# Altium footprint library lib-con.PcbLib: 51 footprints (part 3 of 4)
Each footprint in its own frame and in the unit in brackets; x right, y up, seen from the top. Pads: shape width x height; smd on the part's side, far side on the other; paste and mask are expansions set on the pad; w line width, h text height; cw(c..) or ccw(c..) is an arc to the next point about the centre after c.
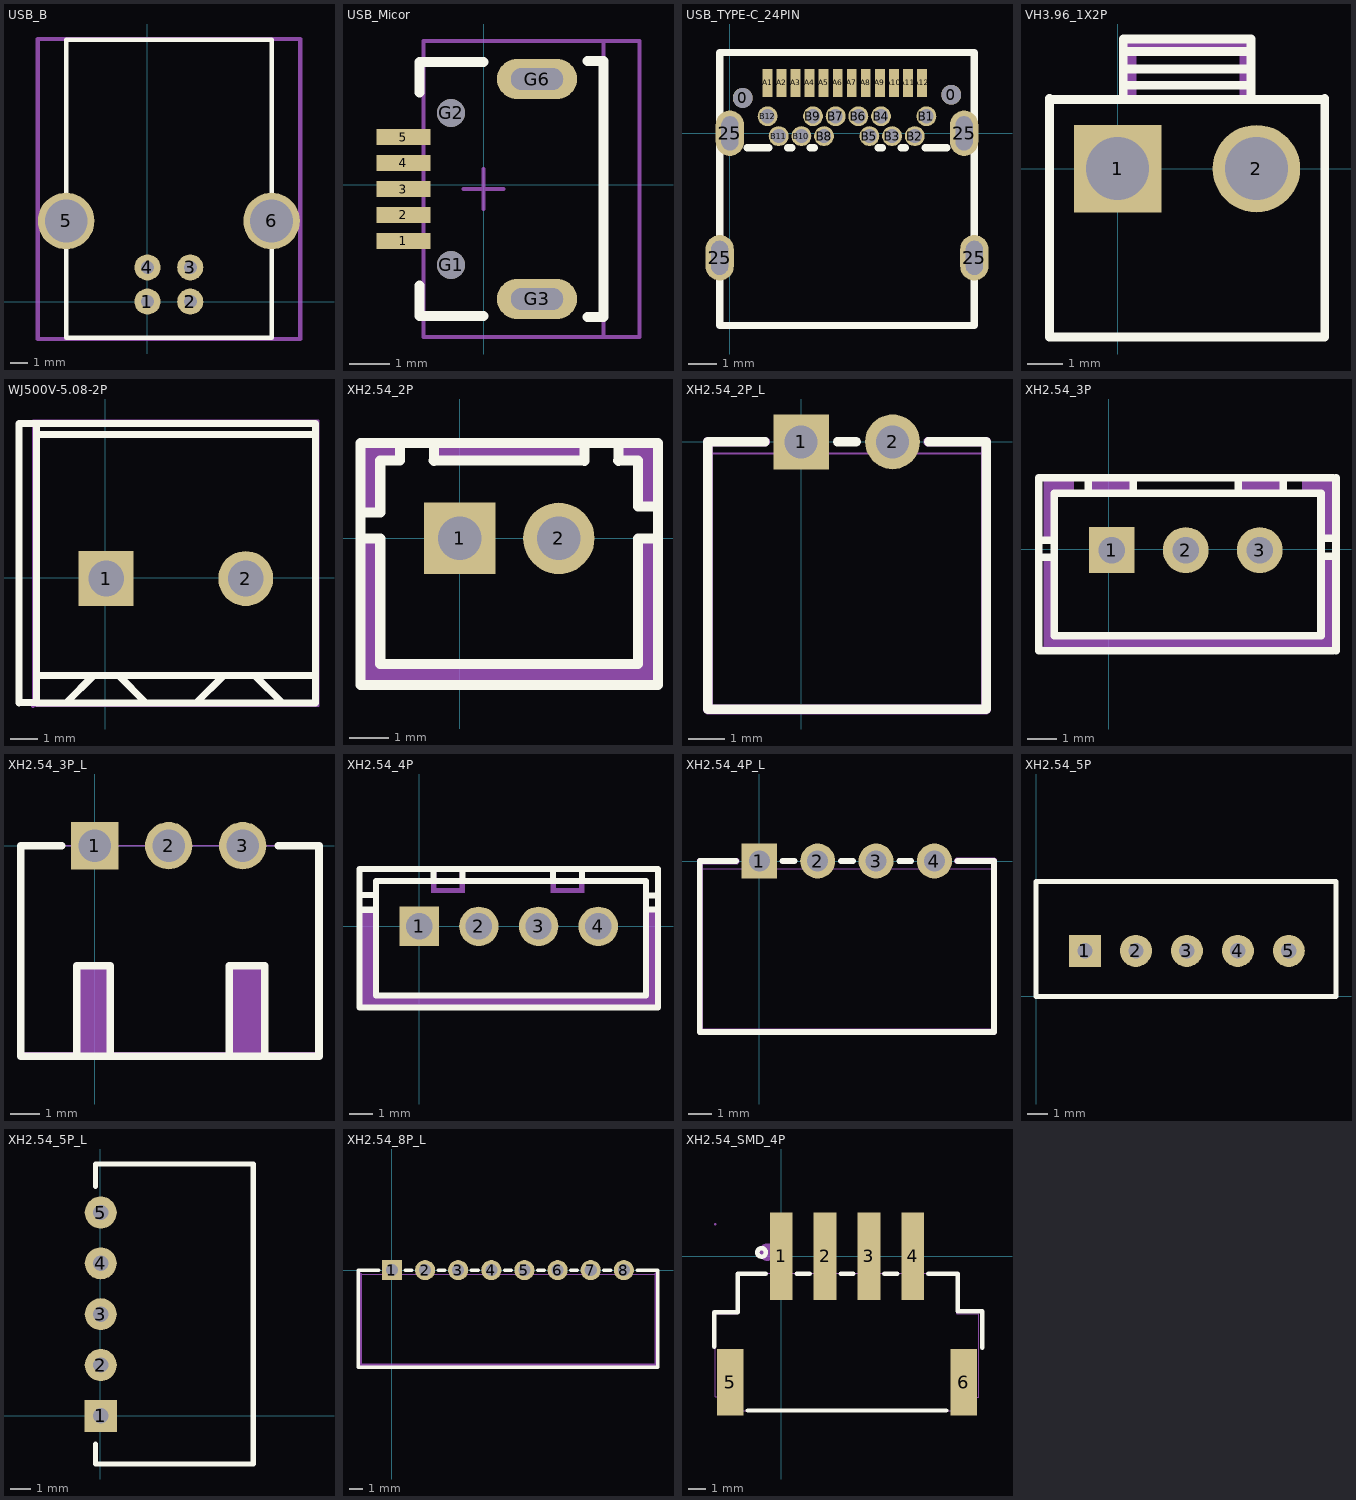
[diagram p2: the footprints below, top view; thin cyan lines are the x and y axes]

## USB_B [mm]
pads (6):
  round 1.524 hole 0.762: 1(0,0) 2(2.5,0) 3(2.5,2) 4(0,2)
  round 3.3 hole 2.5: 5(-4.75,4.71) 6(7.25,4.71)
Top Overlay:
  lines w0.254: -4.75,-2.108 -4.75,4.71 -4.75,15.291 7.25,15.291 7.25,4.71 7.25,-2.108 2.565,-2.108 -4.75,-2.108
Mechanical 15:
  lines w0.254: -6.401,-2.184 8.915,-2.184 8.915,15.342 -6.401,15.342 -6.401,-2.184
3D body "67068-0000.stp": height 11, standoff -4.22, extent -6.224,-1.963 8.636,15.037

## USB_Micor [mm]
pads (9):
  rect 1.35x0.4 smd: 1(-2,-1.402) 2(-2,-0.752) 3(-2,-0.102) 4(-2,0.548) 5(-2,1.198)
  round 0.7 hole 0.7 unplated: G1(-0.813,-2.002) G2(-0.813,1.798)
  oval 2x1 hole 0.55 slot 1.3 at 0 deg: G3(1.337,-2.852) G6(1.337,2.648)
Top Overlay:
  lines w0.254: -1.6,-2.515 -1.6,-3.277 0,-3.277 ; -1.6,2.311 -1.6,3.073 0,3.073 ; 2.6,-3.302 3,-3.302 3,3.098 2.6,3.098
Mechanical 15:
  lines w0.1: -0.5,-0.102 0.5,-0.102 ; 0,-0.602 0,0.398 ; 3,-3.802 3,3.598 ; -1.5,-3.802 3.9,-3.802 3.9,3.598 -1.5,3.598 -1.5,-3.802
3D body "Micro_USB_2.STEP": height 2.68, standoff -0.63, extent -1.515,-4.202 3.915,3.998

## USB_TYPE-C_24PIN [mm] "https://item.szlcsc.com/458820.html"
pads (30):
  round 0.7 hole 0.7: 0(0.455,1.25) 0(7.805,1.36)
  oval 1x1.6 hole 1.2 slot 0.6 at 0 deg: 25(-0.36,-4.39) 25(0,0) 25(8.26,0) 25(8.62,-4.39)
  rect 0.35x1 smd: A1(1.33,1.775) A2(1.825,1.775) A3(2.319,1.775) A4(2.814,1.775) A5(3.308,1.775) A6(3.803,1.775) A7(4.297,1.775) A8(4.792,1.775) A9(5.286,1.775) A10(5.781,1.775) A11(6.275,1.775) A12(6.77,1.775)
  round 0.7 hole 0.5: B1(6.93,0.6) B2(6.52,-0.1) B3(5.72,-0.1) B4(5.33,0.6) B5(4.92,-0.1) B6(4.53,0.6) B7(3.73,0.6) B8(3.32,-0.1) B9(2.93,0.6) B10(2.52,-0.1) B11(1.72,-0.1) B12(1.33,0.6)
Top Overlay:
  lines w0.254: 0.61,-0.508 1.372,-0.508 ; 2.032,-0.508 2.184,-0.508 ; 2.832,-0.508 2.984,-0.508 ; 5.232,-0.508 5.384,-0.508 ; 6.032,-0.508 6.184,-0.508 ; 6.883,-0.508 7.645,-0.508 ; -0.36,-6.778 -0.36,-3.526 -0.36,0.842 -0.36,2.849 8.62,2.849 8.62,0.842 8.62,-6.778 -0.36,-6.778
3D body "usb_31_c.stp": height 3.54, standoff -1.16, extent -0.685,-7.859 8.965,2.141

## VH3.96_1X2P [mm]
pads (2):
  rect 2.5x2.5 hole 1.8: 1(0,0)
  round 2.5 hole 1.8: 2(3.96,0)
Top Overlay:
  lines w0.254: -1.95,1.98 5.91,1.98 ; -1.95,2 -1.95,-4.8 5.91,-4.8 5.91,2 ; 0.16,1.999 0.16,3.701 ; 0.16,2.842 3.8,2.842 ; 0.16,3.7 3.8,3.7 3.8,2 ; 0.177,2.382 3.8,2.382 ; 0.177,3.342 3.8,3.342
Mechanical 6:
  region: 3.78,2 3.78,3.7 0.18,3.7 0.18,2 0.53,2 0.53,3.45 3.48,3.45 3.48,2
Mechanical 15:
  region: -1.89,-4.8 -1.89,-4.775 -1.925,-4.74 -1.975,-4.74 -2.01,-4.775 -2.01,-4.8 -2.01,-4.825 -1.975,-4.86 -1.925,-4.86 -1.89,-4.825
  region: 3.39,0.57 4.53,0.57 4.53,-0.57 3.39,-0.57
  region: -0.57,0.57 0.57,0.57 0.57,-0.57 -0.57,-0.57
  lines w0.051: -1.95,-4.8 -1.95,1.98 0.13,1.98 0.16,2.01 0.16,3.701 0.161,3.7 3.8,3.7 3.83,3.67 3.83,1.98 3.85,2 5.91,2 5.91,-4.8 -1.95,-4.8 ; -1.95,-4.8 -1.95,-4.8
3D body "XH3_F.step": height 10.4, standoff -3.4, extent -2.007,-4.883 5.913,3.817

## WJ500V-5.08-2P [mm]
pads (2):
  rect 2x2 hole 1.3: 1(0.025,-0.025)
  round 2 hole 1.3: 2(5.105,-0.025)
Top Overlay:
  lines w0.254: -2.515,-4.545 -2.515,5.615 -3.147,5.615 -3.147,-4.548 -3.148,-4.547 -2.49,-4.547 -2.488,-4.548 7.645,-4.548 7.645,5.612 -2.488,5.612 ; -2.5,5.217 7.645,5.217 ; -2.471,-3.557 7.645,-3.557 ; -1.405,-4.526 -0.445,-3.565 ; 0.485,-3.565 1.446,-4.526 ; 3.315,-4.544 4.275,-3.584 ; 5.466,-3.584 6.426,-4.544
Mechanical 15:
  region: 0.575,-0.025 0.575,0.084 0.492,0.286 0.337,0.441 0.135,0.525 -0.084,0.525 -0.286,0.441 -0.441,0.286 -0.525,0.084 -0.525,-0.025 -0.525,-0.135 -0.441,-0.337 -0.286,-0.492 -0.084,-0.575 0.135,-0.575 0.337,-0.492 0.492,-0.337 0.575,-0.135
  region: 5.655,-0.025 5.655,0.084 5.572,0.286 5.417,0.441 5.215,0.525 4.996,0.525 4.794,0.441 4.639,0.286 4.555,0.084 4.555,-0.025 4.555,-0.135 4.639,-0.337 4.794,-0.492 4.996,-0.575 5.215,-0.575 5.417,-0.492 5.572,-0.337 5.655,-0.135
  region: -2.582,-4.675 -2.582,-4.65 -2.617,-4.615 -2.666,-4.615 -2.702,-4.65 -2.702,-4.675 -2.702,-4.7 -2.666,-4.735 -2.617,-4.735 -2.582,-4.7
  lines w0.051: -2.642,-4.675 -2.642,5.742 7.772,5.742 7.772,-4.675 -2.642,-4.675
3D body "3D_001_f.step": height 14.1, standoff -3.4, extent -3.145,-4.597 7.616,5.403

## XH2.54_2P [mm]
pads (2):
  rect 1.8x1.8 hole 1.1 paste+0 mask+0.05: 1(0,0)
  round 1.8 hole 1.1 paste+0 mask+0.05: 2(2.5,0)
Top Overlay:
  lines w0.254: -2.5,-2.416 -2.5,0 -2,0 -2,-2.416 -2,-3.167 4.5,-3.167 4.5,-2.344 4.5,0 5,0 5,-2.344 ; -2.5,-1.603 -2.5,0.648 -2,0.65 -2,1.958 -1.5,1.958 -1.5,2.408 ; -0.65,1.95 -0.65,2.4 ; -0.65,1.958 3.15,1.958 ; 3.15,1.95 3.15,2.4 ; 3.999,1.958 4.5,1.958 4.5,0.8 5,0.8 5,-1.501 ; 4,1.95 4,2.399 ; -2.5,-3.7 5,-3.7 5,2.4 -2.5,2.4 -2.5,-3.7
Mechanical 6:
  region: 4,1.95 4.491,1.95 4.5,1.958 4.5,0.8 5,0.8 5,2.4 4.001,2.4 4,2.399
  region: -1.5,1.9 -1.991,1.9 -2,1.908 -2,0.75 -2.5,0.75 -2.5,2.35 -1.501,2.35 -1.5,2.349
  region: 4.5,0 5,0 5,-3.7 -2.5,-3.7 -2.5,-0.05 -2,0 -2,-3.167 4.5,-3.167
  region: 3.15,2.4 3.15,1.9 -0.65,1.9 -0.65,2.4
Mechanical 15:
  region: 2.18,0.32 2.82,0.32 2.82,-0.32 2.18,-0.32
  region: -0.32,0.32 0.32,0.32 0.32,-0.32 -0.32,-0.32
  region: -2.44,-3.5 -2.44,-3.475 -2.475,-3.44 -2.525,-3.44 -2.56,-3.475 -2.56,-3.5 -2.56,-3.525 -2.525,-3.56 -2.475,-3.56 -2.44,-3.525
  lines w0.051: -2.5,-3.5 -2.5,2.4 5,2.4 5,-3.5 -2.5,-3.5
3D body "User Library-XH2_54_ZC_2P.STEP": height 7, standoff -4, extent -2.481,-3.489 4.919,2.311

## XH2.54_2P_L [mm]
pads (2):
  rect 1.524x1.5 hole 0.9 paste+0 mask+0.05: 1(0,0)
  round 1.5 hole 0.9 paste+0 mask+0.05: 2(2.5,0)
Top Overlay:
  lines w0.254: -0.993,0 -2.553,0 -2.553,-7.32 5.06,-7.32 5.06,0 3.481,0 ; 0.993,0 1.507,0
Mechanical 6:
  region: -0.993,-0.127 -2.426,-0.127 -2.426,-7.193 4.933,-7.193 4.933,-0.127 3.481,-0.127 3.429,-0.127 3.354,-0.053 3.354,0.053 3.429,0.127 3.481,0.127 5.06,0.127 5.085,0.127 5.132,0.108 5.168,0.072 5.187,0.025 5.187,0 5.187,-7.32 5.187,-7.345 5.168,-7.392 5.132,-7.428 5.085,-7.447 5.06,-7.447 -2.553,-7.447 -2.578,-7.447 -2.625,-7.428 -2.661,-7.392 -2.68,-7.345 -2.68,-7.32 -2.68,0 -2.68,0.025 -2.661,0.072 -2.625,0.108 -2.578,0.127 -2.553,0.127 -0.993,0.127 -0.94,0.127 -0.866,0.053 -0.866,-0.053 -0.94,-0.127
Mechanical 15:
  region: -2.44,-7.32 -2.441,-7.296 -2.475,-7.262 -2.524,-7.262 -2.559,-7.296 -2.56,-7.32 -2.559,-7.344 -2.524,-7.378 -2.476,-7.378 -2.441,-7.344
  region: -0.32,-0.32 -0.32,-0.31 0.315,-0.31 0.32,-0.305 0.32,-0.33 -0.32,-0.33
  region: 2.18,-0.32 2.18,-0.31 2.815,-0.31 2.82,-0.305 2.82,-0.33 2.18,-0.33
  region: 2.18,0.32 2.82,0.32 2.82,-0.32 2.18,-0.32
  region: -0.32,0.32 0.32,0.32 0.32,-0.32 -0.32,-0.32
  lines w0.051: -2.5,-7.32 -2.5,-0.32 5,-0.32 5,-7.32 -2.5,-7.32
3D body "3D_PCB1_2024-07-061.step": height 5.98, standoff -3.32, extent -2.612,-7.422 4.898,0.218

## XH2.54_3P [mm]
pads (3):
  rect 1.55x1.55 hole 0.9: 1(0.102,-0.025)
  round 1.55 hole 0.9: 2(2.602,-0.025) 3(5.102,-0.025)
Top Overlay:
  lines w0.254: -2.365,-0.265 -1.899,-0.265 -1.899,-0.225 ; -2.365,0.307 -1.899,0.307 -1.899,0.275 ; -0.701,1.905 -0.701,2.413 ; 0.823,1.905 0.823,2.413 ; 4.379,1.905 4.379,2.413 ; 5.904,1.905 5.904,2.184 5.904,2.413 ; 7.201,-0.225 7.681,-0.225 7.681,-0.176 ; 7.201,0.375 7.681,0.375 7.681,0.37 ; 7.567,-3.429 -2.365,-3.429 -2.365,2.413 7.567,2.413 ; 7.681,-3.429 7.681,2.413 ; -1.843,-2.921 -1.843,1.905 7.174,1.905 7.174,-2.921 -1.843,-2.921
Mechanical 6:
  region: -2.199,2.388 -2.199,0.356 -1.818,0.356 -1.818,2.007 -1.183,2.007 -1.183,2.388
  region: 7.554,2.388 7.554,0.356 7.173,0.356 7.173,2.007 6.538,2.007 6.538,2.388
  region: -2.199,-3.425 -2.199,-0.325 -1.799,-0.325 -1.799,-2.925 7.201,-2.925 7.201,-0.325 7.601,-0.325 7.601,-3.425
  region: -0.699,2.375 0.801,2.375 0.801,1.975 -0.699,1.975
  region: 4.401,2.375 5.901,2.375 5.901,1.975 4.401,1.975
Mechanical 15:
  region: 0.351,-0.275 -0.149,-0.275 -0.149,0.225 0.351,0.225
  region: 2.851,-0.275 2.351,-0.275 2.351,0.225 2.851,0.225
  region: 5.351,-0.275 4.851,-0.275 4.851,0.225 5.351,0.225
  region: -2.339,-3.309 -2.339,-3.285 -2.374,-3.249 -2.423,-3.249 -2.459,-3.285 -2.459,-3.309 -2.459,-3.334 -2.423,-3.369 -2.374,-3.369 -2.339,-3.334
  lines w0.051: -2.399,-3.309 7.601,-3.309 7.601,2.441 -2.399,2.441 -2.399,-3.309
3D body "User Library-XH2_54-3P.STEP": height 7, standoff -1.8, extent -2.288,-3.459 7.672,2.341

## XH2.54_3P_L [mm]
pads (3):
  rect 1.6x1.6 hole 1.1: 1(0,0)
  round 1.6 hole 1.1: 2(2.5,0) 3(5,0)
Top Overlay:
  lines w0.254: -1.116,0 -2.5,0 -2.5,-7.112 7.5,-7.112 ; -0.608,-7.112 -0.608,-4.064 0.522,-4.064 0.522,-7.112 ; 4.545,-7.112 4.545,-4.064 5.751,-4.064 5.751,-7.112 ; 6.196,0 7.58,0 7.58,-7.112
Mechanical 6:
  region: -0.548,-4.064 0.468,-4.064 0.468,-7.112 -0.548,-7.112
  region: 4.659,-4.064 5.675,-4.064 5.675,-7.112 4.659,-7.112
Mechanical 15:
  region: -2.44,-7 -2.44,-6.975 -2.475,-6.94 -2.525,-6.94 -2.56,-6.975 -2.56,-7 -2.56,-7.025 -2.525,-7.06 -2.475,-7.06 -2.44,-7.025
  region: 5.32,-0.32 4.68,-0.32 4.68,0.32 5.32,0.32
  region: 2.82,-0.32 2.18,-0.32 2.18,0.32 2.82,0.32
  region: 0.32,-0.32 -0.32,-0.32 -0.32,0.32 0.32,0.32
  lines w0.051: -2.5,-7 -2.5,0 7.5,0 7.5,-7 -2.5,-7
3D body "3D_PCB1_2024-07-061 v1.step": height 5.76, standoff -3.34, extent -2.435,-7.243 7.566,0.457

## XH2.54_4P [mm]
pads (4):
  rect 1.65x1.65 hole 1.1 paste+0 mask+0.05: 1(0,0)
  round 1.65 hole 1.1 paste+0 mask+0.05: 2(2.5,0) 3(5,0) 4(7.5,0)
Top Overlay:
  lines w0.254: -2.5,0.694 -1.8,0.694 ; -2.5,1.305 -1.8,1.305 ; 0.61,1.9 0.61,2.4 ; 1.81,1.9 1.81,2.4 ; 5.61,1.9 5.61,2.4 ; 6.81,1.9 6.81,2.4 ; 9.5,0.7 10,0.7 ; 9.5,1.3 10,1.3 ; -2.501,-3.401 10,-3.4 10,2.4 -2.501,2.4 -2.501,-3.401 ; -1.8,-2.9 -1.8,1.89 9.5,1.89 9.5,-2.9 -1.8,-2.9
Mechanical 6:
  region: 9.465,0.635 9.465,-2.921 -1.838,-2.921 -1.838,0.762 -2.473,0.762 -2.473,-3.302 9.973,-3.302 9.973,0.635
  region: 0.51,2.4 0.51,1.8 0.71,1.8 0.71,2.4
  region: 1.71,2.4 1.71,1.8 1.91,1.8 1.91,2.4
  region: 0.71,1.4 1.71,1.4 1.71,1.6 0.71,1.6
  region: 5.51,2.4 5.51,1.8 5.71,1.8 5.71,2.4
  region: 6.91,1.8 6.91,2.4 6.71,2.4 6.71,1.8
  region: 5.71,1.4 6.71,1.4 6.71,1.6 5.71,1.6
  region: 1.91,2 5.51,2 5.51,1.8 1.91,1.8
  region: 0.51,1.8 0.51,1.4 0.71,1.4 0.71,1.8
  region: 1.71,1.8 1.71,1.4 1.91,1.4 1.91,1.8
  region: 5.51,1.8 5.51,1.4 5.71,1.4 5.71,1.8
  region: 6.71,1.8 6.71,1.4 6.91,1.4 6.91,1.8
Mechanical 15:
  region: 7.18,0.32 7.82,0.32 7.82,-0.32 7.18,-0.32
  region: -0.32,0.32 0.32,0.32 0.32,-0.32 -0.32,-0.32
  region: 2.18,0.32 2.82,0.32 2.82,-0.32 2.18,-0.32
  region: 4.68,0.32 5.32,0.32 5.32,-0.32 4.68,-0.32
  region: -2.44,-3.4 -2.44,-3.375 -2.475,-3.34 -2.525,-3.34 -2.56,-3.375 -2.56,-3.4 -2.56,-3.425 -2.525,-3.46 -2.475,-3.46 -2.44,-3.425
  lines w0.051: -2.5,-3.4 10,-3.4 10,2.4 -2.5,2.4 -2.5,-3.4
3D body "User Library-XH2_54-4P_step.STEP": height 7, standoff -1.8, extent -2.44,-3.383 10.06,2.417

## XH2.54_4P_L [mm]
pads (4):
  rect 1.524x1.5 hole 0.9 paste+0 mask+0.05: 1(0,0)
  round 1.5 hole 0.9 paste+0 mask+0.05: 2(2.5,0) 3(5,0) 4(7.5,0)
Top Overlay:
  lines w0.254: -0.993,0 -2.553,0 -2.553,-7.32 10.053,-7.32 ; 0.993,0 1.507,0 ; 3.493,0 4.007,0 ; 5.993,0 6.507,0 ; 8.493,0 10.053,0 10.053,-7.239
Mechanical 6:
  region: -0.985,-0.127 -2.418,-0.127 -2.418,-7.188 9.928,-7.188 9.928,-0.122 8.485,-0.122 8.432,-0.122 8.358,-0.048 8.358,0.058 8.432,0.132 8.485,0.132 10.055,0.132 10.08,0.132 10.127,0.113 10.163,0.077 10.182,0.03 10.182,0.005 10.182,-7.315 10.182,-7.34 10.163,-7.387 10.127,-7.423 10.08,-7.442 10.055,-7.442 -2.545,-7.442 -2.57,-7.442 -2.617,-7.423 -2.653,-7.387 -2.672,-7.34 -2.672,-7.315 -2.672,0 -2.672,0.025 -2.653,0.072 -2.617,0.108 -2.57,0.127 -2.545,0.127 -0.985,0.127 -0.932,0.127 -0.858,0.053 -0.858,-0.053 -0.932,-0.127
Mechanical 15:
  region: -0.32,-0.32 -0.32,-0.31 0.315,-0.31 0.32,-0.305 0.32,-0.33 -0.32,-0.33
  region: 2.18,-0.32 2.18,-0.31 2.815,-0.31 2.82,-0.305 2.82,-0.33 2.18,-0.33
  region: 4.68,-0.32 4.68,-0.31 5.315,-0.31 5.32,-0.305 5.32,-0.33 4.68,-0.33
  region: 7.18,-0.32 7.18,-0.31 7.815,-0.31 7.82,-0.305 7.82,-0.33 7.18,-0.33
  region: 7.18,0.32 7.82,0.32 7.82,-0.32 7.18,-0.32
  region: 4.68,0.32 5.32,0.32 5.32,-0.32 4.68,-0.32
  region: 2.18,0.32 2.82,0.32 2.82,-0.32 2.18,-0.32
  region: -0.32,0.32 0.32,0.32 0.32,-0.32 -0.32,-0.32
  region: -2.44,-7.32 -2.441,-7.296 -2.476,-7.262 -2.524,-7.262 -2.559,-7.296 -2.56,-7.32 -2.559,-7.344 -2.524,-7.378 -2.476,-7.378 -2.441,-7.344
  lines w0.051: -2.5,-7.32 10,-7.32 10,-0.32 -2.5,-0.32 -2.5,-7.32
3D body "3D_PCB1_2024-07-06 v1.step": height 5.98, standoff -3.32, extent -2.623,-7.32 9.887,0.32

## XH2.54_5P [mm]
pads (5):
  rect 1.6x1.6 hole 0.762: 1(2.438,2.255)
  round 1.6 hole 0.762: 2(4.978,2.255) 3(7.518,2.255) 4(10.058,2.255) 5(12.598,2.255)
Top Overlay:
  lines w0.254: 0,-0.025 14.95,-0.025 14.95,5.715 0,5.715 0,-0.025
3D body "User Library-XH2_54-5P-1.STEP": height 7, standoff -1.8, extent -0.004,-0.207 15.036,5.593

## XH2.54_5P_L [mm]
pads (5):
  rect 1.6x1.6 hole 0.762: 1(0.025,0)
  round 1.6 hole 0.762: 2(0.025,2.54) 3(0.025,5.08) 4(0.025,7.62) 5(0.025,10.16)
Top Overlay:
  lines w0.254: -0.229,-1.405 -0.229,-1.655 -0.229,-2.155 -0.229,-2.405 7.645,-2.405 7.645,12.585 -0.229,12.585 -0.229,11.455
3D body "User Library-XH2_54-5P.STEP": height 5.71, standoff -1.54, extent -0.23,-2.48 7.495,12.52

## XH2.54_8P_L [mil]
pads (8):
  rect 60x60 hole 36: 1(0,0)
  round 60 hole 36: 2(98.44,0) 3(196.85,0) 4(295.29,0) 5(393.7,0) 6(492.13,0) 7(590.55,0) 8(688.99,0)
Top Overlay:
  lines w10: -39.1,0 -100.51,0 -100.51,-288.19 789.49,-288.19 ; 39.1,0 59.33,0 ; 137.53,0 157.75,0 ; 235.95,0 256.18,0 ; 334.38,0 354.6,0 ; 432.8,0 453.02,0 ; 531.23,0 551.45,0 ; 629.65,0 649.88,0 ; 728.08,0 789.49,0 789.49,-285
Mechanical 6:
  region: -90.28,-12.6 -90.28,-278.46 780.43,-278.46 780.43,-11.81 780.43,-9.74 783.36,-6.81 787.5,-6.81 790.43,-9.74 790.43,-11.81 790.43,-283.46 790.43,-284.46 789.67,-286.3 788.26,-287.7 786.43,-288.46 785.43,-288.46 -95.28,-288.46 -96.27,-288.46 -98.11,-287.7 -99.51,-286.3 -100.28,-284.46 -100.28,-283.46 -100.28,-12.6 -100.28,-10.53 -97.35,-7.6 -93.2,-7.6 -90.28,-10.53
Mechanical 15:
  region: -96.06,-288.19 -96.06,-287.21 -97.45,-285.82 -99.4,-285.83 -100.79,-287.21 -100.79,-288.19 -100.79,-289.17 -99.4,-290.55 -97.44,-290.55 -96.06,-289.16
  region: -12.6,12.6 12.6,12.6 12.6,-12.6 -12.6,-12.6
  region: 85.83,12.6 111.03,12.6 111.03,-12.6 85.83,-12.6
  region: 184.25,12.6 209.45,12.6 209.45,-12.6 184.25,-12.6
  region: 282.68,12.6 307.88,12.6 307.88,-12.6 282.68,-12.6
  region: 381.1,12.6 406.3,12.6 406.3,-12.6 381.1,-12.6
  region: 479.53,12.6 504.73,12.6 504.73,-12.6 479.53,-12.6
  region: 577.95,12.6 603.15,12.6 603.15,-12.6 577.95,-12.6
  region: 676.38,12.6 701.58,12.6 701.58,-12.6 676.38,-12.6
  region: -12.6,12.6 12.6,12.6 12.6,-12.99 -12.6,-12.99
  region: 85.83,12.6 111.03,12.6 111.03,-12.99 85.83,-12.99
  region: 184.25,12.6 209.45,12.6 209.45,-12.99 184.25,-12.99
  region: 282.68,12.6 307.88,12.6 307.88,-12.99 282.68,-12.99
  region: 381.1,12.6 406.3,12.6 406.3,-12.99 381.1,-12.99
  region: 479.53,12.6 504.73,12.6 504.73,-12.99 479.53,-12.99
  region: 577.95,12.6 603.15,12.6 603.15,-12.99 577.95,-12.99
  region: 676.38,12.6 701.58,12.6 701.58,-12.99 676.38,-12.99
  lines w2: -98.42,-288.19 -98.42,-12.6 787.4,-12.6 787.4,-288.19 -98.42,-288.19
3D body "3D_PCB1_2024-07-0622V1.step": height 235.28, standoff -130.86, extent -101.11,-290.19 785.11,10.6

## XH2.54_SMD_4P [mm]
pads (6):
  rect 1.3x5.001 smd mask+0.05: 1(0,0) 2(2.499,0) 3(4.999,0) 4(7.498,0)
  rect 1.501x3.8 smd mask+0.05: 5(-2.901,-7.198) 6(10.399,-7.198)
Top Overlay:
  circle w0.254: c-1.12,0.211 r0.244
  lines w0.254: -3.82,-5.159 -3.82,-3.2 -2.471,-3.2 -2.471,-0.998 -0.881,-0.998 ; -1.92,-8.799 9.418,-8.799 ; 0.881,-0.998 1.618,-0.998 ; 3.381,-0.998 4.117,-0.998 ; 5.88,-0.998 6.617,-0.998 ; 8.379,-0.998 10.069,-0.998 10.069,-3.129 11.458,-3.129 11.458,-5.23
Mechanical 6:
  circle w0.5: c-0.78,0.231 r0.249
Mechanical 15:
  region: -3.691,1.821 -3.691,1.846 -3.726,1.882 -3.777,1.882 -3.813,1.846 -3.813,1.821 -3.813,1.796 -3.777,1.76 -3.726,1.76 -3.691,1.796
  region: 7.178,1.821 7.818,1.821 7.818,-1.179 7.178,-1.179
  region: 4.679,1.821 5.319,1.821 5.319,-1.179 4.679,-1.179
  region: 2.179,1.821 2.819,1.821 2.819,-1.179 2.179,-1.179
  region: -0.32,1.821 0.32,1.821 0.32,-1.179 -0.32,-1.179
  region: 10.198,-5.819 10.599,-5.819 10.599,-8.819 10.198,-8.819
  region: -3.101,-5.819 -2.7,-5.819 -2.7,-8.819 -3.101,-8.819
  lines w0.051: -3.752,-8.019 -3.752,-3.279 -2.502,-3.279 -2.502,-0.98 10,-0.98 10,-3.279 11.239,-3.279 11.25,-3.289 11.25,-8.039 10.559,-8.039 10.549,-8.049 10.549,-8.819 -3.04,-8.819 -3.051,-8.809 -3.051,-8.019 -3.752,-8.019

## XH2.54_SMD_4P_L [mm]